# Altium integrated library My_Integrated_Library.IntLib: 29 symbols
Pins are listed as number, name and electrical type; pins without a type are passive.

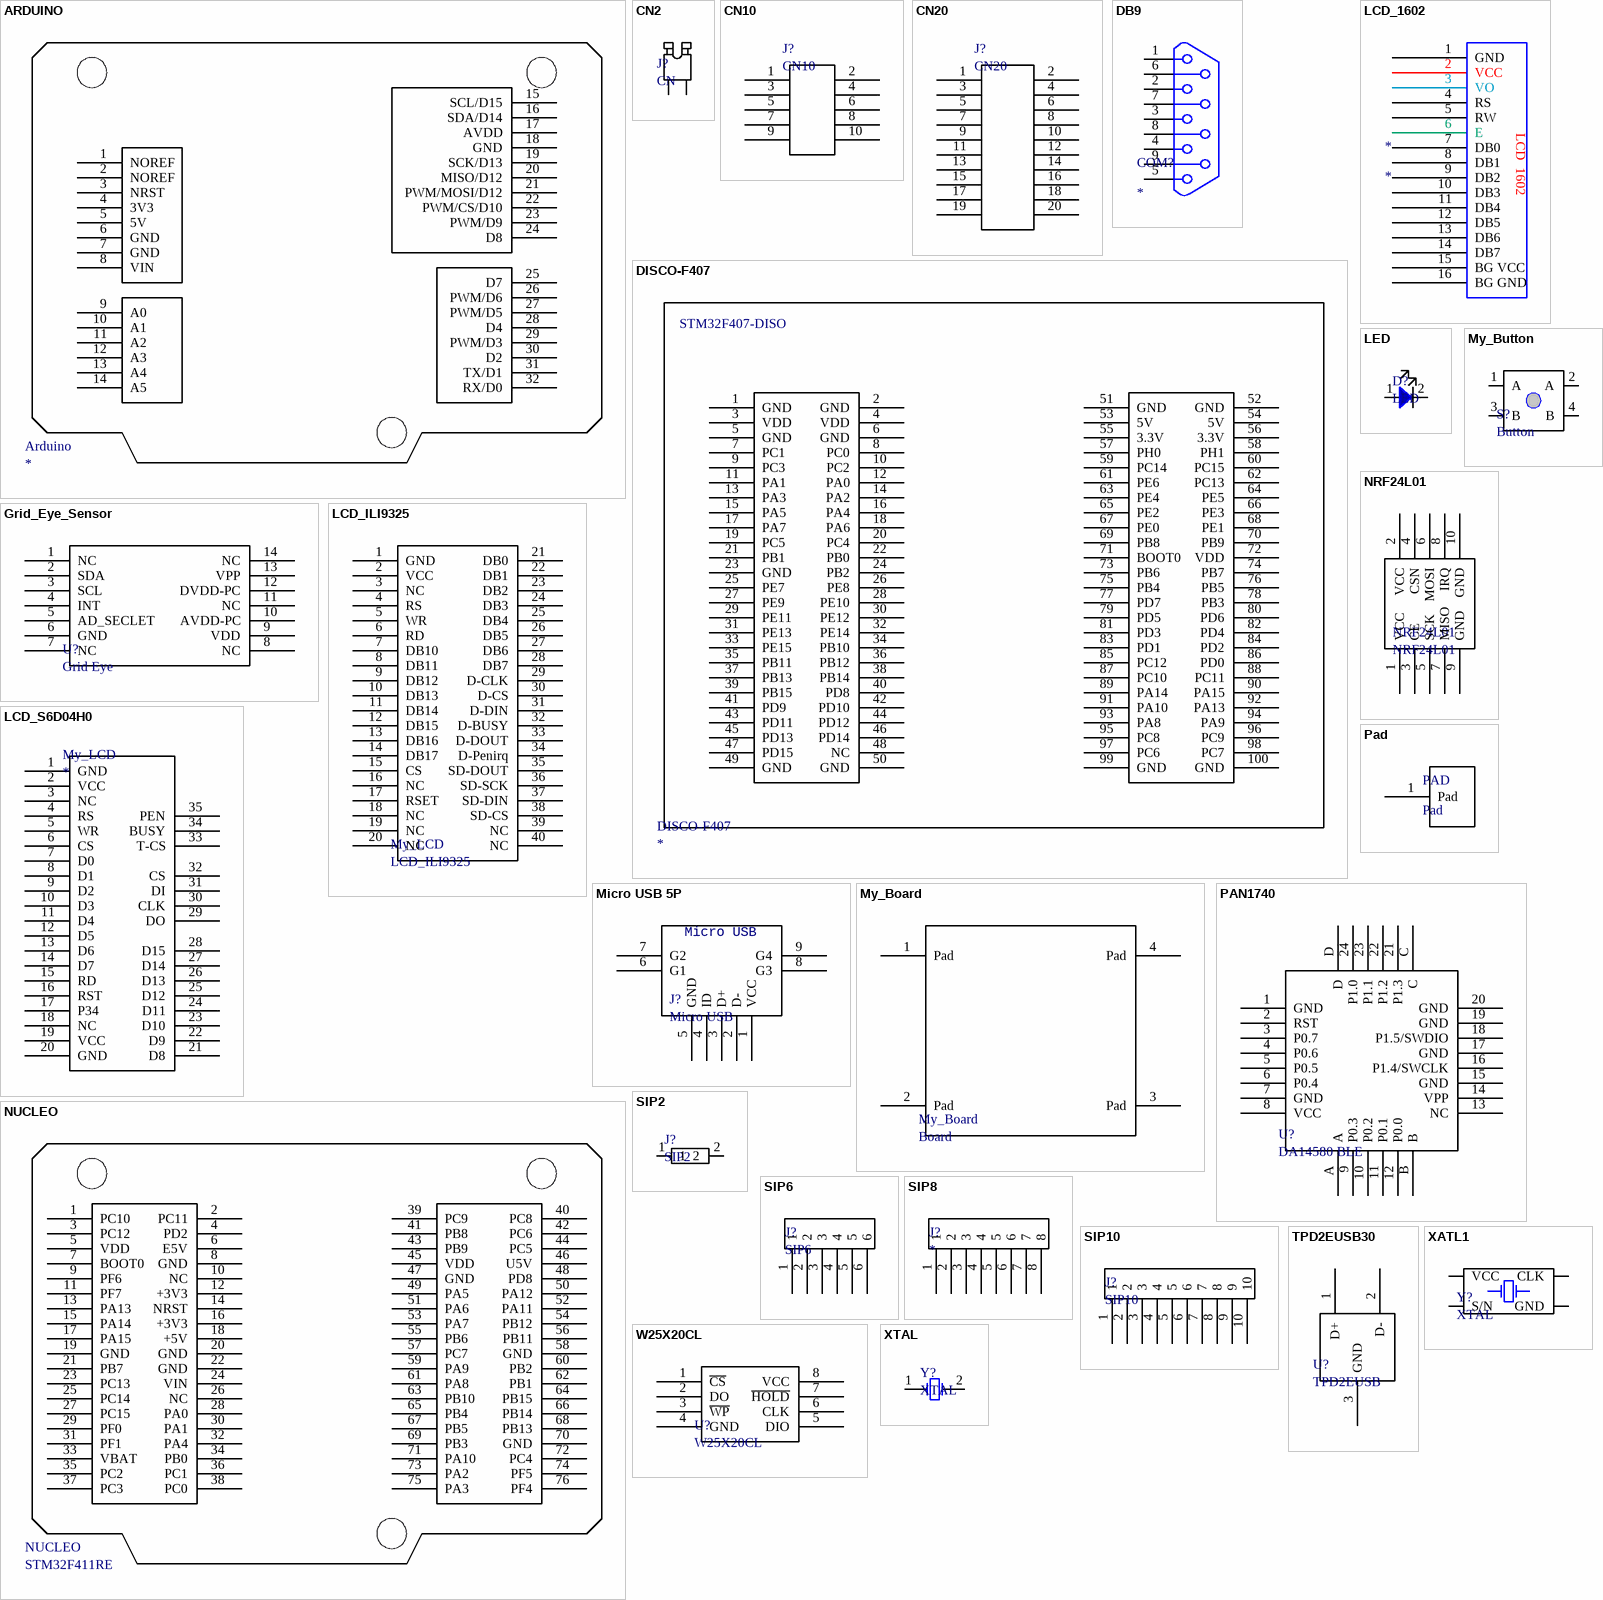
[diagram p0: symbols ARDUINO to XTAL]

## ARDUINO
designator Arduino
My Arduino
footprint ARDUINO
pins: 1 NOREF "My Pad", 2 NOREF "My Pad", 3 NRST "My Pad", 4 3V3 "My Pad", 5 5V "My Pad", 6 GND "My Pad", 7 GND "My Pad", 8 VIN "My Pad", 9 A0 "My Pad", 10 A1 "My Pad", 11 A2 "My Pad", 12 A3 "My Pad", 13 A4 "My Pad", 14 A5 "My Pad", 15 SCL/D15 "My Pad", 16 SDA/D14 "My Pad", 17 AVDD "My Pad", 18 GND "My Pad", 19 SCK/D13 "My Pad", 20 MISO/D12 "My Pad", 21 PWM/MOSI/D12 "My Pad", 22 PWM/CS/D10 "My Pad", 23 PWM/D9 "My Pad", 24 D8 "My Pad", 25 D7 "My Pad", 26 PWM/D6 "My Pad", 27 PWM/D5 "My Pad", 28 D4 "My Pad", 29 PWM/D3 "My Pad", 30 D2 "My Pad", 31 TX/D1 "My Pad", 32 RX/D0 "My Pad"

## CN2
designator J?, comment CN
My CN2
footprint CN2 (Header 2 X 1)
pins: 1 "My Pad", 2 "My Pad"

## CN10
designator J?
My CN10
footprint CN10 (Header 5 X 2)
pins: 1 "My Pad", 2 "My Pad", 3 "My Pad", 4 "My Pad", 5 "My Pad", 6 "My Pad", 7 "My Pad", 8 "My Pad", 9 "My Pad", 10 "My Pad"

## CN20
designator J?
My CN20
footprint CN20
pins: 1 "My Pad", 2 "My Pad", 3 "My Pad", 4 "My Pad", 5 "My Pad", 6 "My Pad", 7 "My Pad", 8 "My Pad", 9 "My Pad", 10 "My Pad", 11 "My Pad", 12 "My Pad", 13 "My Pad", 14 "My Pad", 15 "My Pad", 16 "My Pad", 17 "My Pad", 18 "My Pad", 19 "My Pad", 20 "My Pad"

## DB9
designator COM?
footprint DB9
pins: 1, 2, 3, 4, 5, 6, 7, 8, 9

## DISCO-F407
designator DISCO-F407
My_Disco
footprint DISCOVERY-F4 (ST DISCOVERY BOARD)
pins: 1 GND "My Pad", 2 GND "My Pad", 3 VDD "My Pad", 4 VDD "My Pad", 5 GND "My Pad", 6 GND "My Pad", 7 PC1 "My Pad", 8 PC0 "My Pad", 9 PC3 "My Pad", 10 PC2 "My Pad", 11 PA1 "My Pad", 12 PA0 "My Pad", 13 PA3 "My Pad", 14 PA2 "My Pad", 15 PA5 "My Pad", 16 PA4 "My Pad", 17 PA7 "My Pad", 18 PA6 "My Pad", 19 PC5 "My Pad", 20 PC4 "My Pad", 21 PB1 "My Pad", 22 PB0 "My Pad", 23 GND "My Pad", 24 PB2 "My Pad", 25 PE7 "My Pad", 26 PE8 "My Pad", 27 PE9 "My Pad", 28 PE10 "My Pad", 29 PE11 "My Pad", 30 PE12 "My Pad", 31 PE13 "My Pad", 32 PE14 "My Pad", 33 PE15 "My Pad", 34 PB10 "My Pad", 35 PB11 "My Pad", 36 PB12 "My Pad", 37 PB13 "My Pad", 38 PB14 "My Pad", 39 PB15 "My Pad", 40 PD8 "My Pad", 41 PD9 "My Pad", 42 PD10 "My Pad", 43 PD11 "My Pad", 44 PD12 "My Pad", 45 PD13 "My Pad", 46 PD14 "My Pad", 47 PD15 "My Pad", 48 NC "My Pad", 49 GND "My Pad", 50 GND "My Pad", 51 GND "My Pad", 52 GND "My Pad", 53 5V "My Pad", 54 5V "My Pad", 55 3.3V "My Pad", 56 3.3V "My Pad", 57 PH0 "My Pad", 58 PH1 "My Pad", 59 PC14 "My Pad", 60 PC15 "My Pad", 61 PE6 "My Pad", 62 PC13 "My Pad", 63 PE4 "My Pad", 64 PE5 "My Pad", 65 PE2 "My Pad", 66 PE3 "My Pad", 67 PE0 "My Pad", 68 PE1 "My Pad", 69 PB8 "My Pad", 70 PB9 "My Pad", 71 BOOT0 "My Pad", 72 VDD "My Pad", 73 PB6 "My Pad", 74 PB7 "My Pad", 75 PB4 "My Pad", 76 PB5 "My Pad", 77 PD7 "My Pad", 78 PB3 "My Pad", 79 PD5 "My Pad", 80 PD6 "My Pad", 81 PD3 "My Pad", 82 PD4 "My Pad", 83 PD1 "My Pad", 84 PD2 "My Pad", 85 PC12 "My Pad", 86 PD0 "My Pad", 87 PC10 "My Pad", 88 PC11 "My Pad", 89 PA14 "My Pad", 90 PA15 "My Pad", 91 PA10 "My Pad", 92 PA13 "My Pad", 93 PA8 "My Pad", 94 PA9 "My Pad", 95 PC8 "My Pad", 96 PC9 "My Pad", 97 PC6 "My Pad", 98 PC7 "My Pad", 99 GND "My Pad", 100 GND "My Pad"
text: STM32F407-DISO

## Grid_Eye_Sensor
designator U?, comment Grid Eye
Grid Eye Sensor
footprint Grid_Eye_Sensor (Grid Eye Sensor)
pins: 1 NC "My Pad", 2 SDA "My Pad", 3 SCL "My Pad", 4 INT "My Pad", 5 AD_SECLET "My Pad", 6 GND "My Pad", 7 NC "My Pad", 8 NC "My Pad", 9 VDD "My Pad", 10 AVDD-PC "My Pad", 11 NC "My Pad", 12 DVDD-PC "My Pad", 13 VPP "My Pad", 14 NC "My Pad"

## LCD_1602
designator *
pins: 1 GND, 2 VCC, 3 VO, 4 RS, 5 RW, 6 E, 7 DB0, 8 DB1, 9 DB2, 10 DB3, 11 DB4, 12 DB5, 13 DB6, 14 DB7, 15 BG VCC, 16 BG GND
text: LCD  1602

## LCD_ILI9325
designator My_LCD
LCD ILI9325
footprint ILI9325 (My  ILI9325 LCD module)
pins: 1 GND "My Pad", 2 VCC "My Pad", 3 NC "My Pad", 4 RS "My Pad", 5 WR "My Pad", 6 RD "My Pad", 7 DB10 "My Pad", 8 DB11 "My Pad", 9 DB12 "My Pad", 10 DB13 "My Pad", 11 DB14 "My Pad", 12 DB15 "My Pad", 13 DB16 "My Pad", 14 DB17 "My Pad", 15 CS "My Pad", 16 NC "My Pad", 17 RSET "My Pad", 18 NC "My Pad", 19 NC "My Pad", 20 NC "My Pad", 21 DB0 "My Pad", 22 DB1 "My Pad", 23 DB2 "My Pad", 24 DB3 "My Pad", 25 DB4 "My Pad", 26 DB5 "My Pad", 27 DB6 "My Pad", 28 DB7 "My Pad", 29 D-CLK "My Pad", 30 D-CS "My Pad", 31 D-DIN "My Pad", 32 D-BUSY "My Pad", 33 D-DOUT "My Pad", 34 D-Penirq "My Pad", 35 SD-DOUT "My Pad", 36 SD-SCK "My Pad", 37 SD-DIN "My Pad", 38 SD-CS "My Pad", 39 NC "My Pad", 40 NC "My Pad"

## LCD_S6D04H0
designator My_LCD
LCD SD6404H0 module
footprint S6D04H0 (My S6D04H0 Module)
pins: 1 GND "My Pad", 2 VCC "My Pad", 3 NC "My Pad", 4 RS "My Pad", 5 WR "My Pad", 6 CS "My Pad", 7 D0 "My Pad", 8 D1 "My Pad", 9 D2 "My Pad", 10 D3 "My Pad", 11 D4 "My Pad", 12 D5 "My Pad", 13 D6 "My Pad", 14 D7 "My Pad", 15 RD "My Pad", 16 RST "My Pad", 17 P34 "My Pad", 18 NC "My Pad", 19 VCC "My Pad", 20 GND "My Pad", 21 D8 "My Pad", 22 D9 "My Pad", 23 D10 "My Pad", 24 D11 "My Pad", 25 D12 "My Pad", 26 D13 "My Pad", 27 D14 "My Pad", 28 D15 "My Pad", 29 DO "My Pad", 30 CLK "My Pad", 31 DI "My Pad", 32 CS "My Pad", 33 T-CS "My Pad", 34 BUSY "My Pad", 35 PEN "My Pad"

## LED
designator D?
My LED
footprint LED-F5 (LED F5 草帽灯)
pins: 1 "My Pad", 2 "My Pad"

## Micro USB 5P
designator J?, comment Micro USB
Micro USB 5P
footprint Micro USB (Micro USB 5p)
pins: 1 VCC "My Pad", 2 D- "My Pad", 3 D+ "My Pad", 4 ID "My Pad", 5 GND "My Pad", 6 G1 "My Pad", 7 G2 "My Pad", 8 G3 "My Pad", 9 G4 "My Pad"

## My_Board
designator My_Board, comment Board
My Board
footprint My_Board_9_15 (9*15cm board)
footprint My_Board_5_7 (baord 5x7cm)
footprint MY_BOARD_6_6 (My Boaed 6 x 6 cm)
pins: 1 Pad "My Pad", 2 Pad "My Pad", 3 Pad "My Pad", 4 Pad "My Pad"

## My_Button
designator S?, comment Button
My Button
footprint My_Button (My Botton 4 pins)
pins: 1 A "My Pad", 2 A "My Pad", 3 B "My Pad", 4 B "My Pad"

## NRF24L01
designator NRF24L01
My NRF14L01 Module
footprint NRF24L01 (NRF24L01 PCB MODULE)
pins: 1 VCC "My Pad", 2 VCC "My Pad", 3 CE "My Pad", 4 CSN "My Pad", 5 SCK "My Pad", 6 MOSI "My Pad", 7 MISO "My Pad", 8 IRQ "My Pad", 9 GND "My Pad", 10 GND "My Pad"

## NUCLEO
designator NUCLEO, comment STM32F411RE
STM32F411RE Nucleo Board
footprint NUCLEO Board (My_Nucleo)
pins: 1 PC10 "My Pad", 2 PC11 "My Pad", 3 PC12 "My Pad", 4 PD2 "My Pad", 5 VDD "My Pad", 6 E5V "My Pad", 7 BOOT0 "My Pad", 8 GND "My Pad", 9 PF6 "My Pad", 10 NC "My Pad", 11 PF7 "My Pad", 12 +3V3 "My Pad", 13 PA13 "My Pad", 14 NRST "My Pad", 15 PA14 "My Pad", 16 +3V3 "My Pad", 17 PA15 "My Pad", 18 +5V "My Pad", 19 GND "My Pad", 20 GND "My Pad", 21 PB7 "My Pad", 22 GND "My Pad", 23 PC13 "My Pad", 24 VIN "My Pad", 25 PC14 "My Pad", 26 NC "My Pad", 27 PC15 "My Pad", 28 PA0 "My Pad", 29 PF0 "My Pad", 30 PA1 "My Pad", 31 PF1 "My Pad", 32 PA4 "My Pad", 33 VBAT "My Pad", 34 PB0 "My Pad", 35 PC2 "My Pad", 36 PC1 "My Pad", 37 PC3 "My Pad", 38 PC0 "My Pad", 39 PC9 "My Pad", 40 PC8 "My Pad", 41 PB8 "My Pad", 42 PC6 "My Pad", 43 PB9 "My Pad", 44 PC5 "My Pad", 45 VDD "My Pad", 46 U5V "My Pad", 47 GND "My Pad", 48 PD8 "My Pad", 49 PA5 "My Pad", 50 PA12 "My Pad", 51 PA6 "My Pad", 52 PA11 "My Pad", 53 PA7 "My Pad", 54 PB12 "My Pad", 55 PB6 "My Pad", 56 PB11 "My Pad", 57 PC7 "My Pad", 58 GND "My Pad", 59 PA9 "My Pad", 60 PB2 "My Pad", 61 PA8 "My Pad", 62 PB1 "My Pad", 63 PB10 "My Pad", 64 PB15 "My Pad", 65 PB4 "My Pad", 66 PB14 "My Pad", 67 PB5 "My Pad", 68 PB13 "My Pad", 69 PB3 "My Pad", 70 GND "My Pad", 71 PA10 "My Pad", 72 PC4 "My Pad", 73 PA2 "My Pad", 74 PF5 "My Pad", 75 PA3 "My Pad", 76 PF4 "My Pad"

## Pad
designator PAD
My Pad
footprint Pad (My Pad)
pins: 1 Pad "My Pad"

## PAN1740
designator U?, comment DA14580 BLE
DA14580 BLE MODULE
footprint PAN1740 (DA14580 BLE MODULE)
pins: 1 GND "My Pad", 2 RST "My Pad", 3 P0.7 "My Pad", 4 P0.6 "My Pad", 5 P0.5 "My Pad", 6 P0.4 "My Pad", 7 GND "My Pad", 8 VCC "My Pad", 9 P0.3 "My Pad", 10 P0.2 "My Pad", 11 P0.1 "My Pad", 12 P0.0 "My Pad", 13 NC "My Pad", 14 VPP "My Pad", 15 GND "My Pad", 16 P1.4/SWCLK "My Pad", 17 GND "My Pad", 18 P1.5/SWDIO "My Pad", 19 GND "My Pad", 20 GND "My Pad", 21 P1.3 "My Pad", 22 P1.2 "My Pad", 23 P1.1 "My Pad", 24 P1.0 "My Pad", A "My Pad", B "My Pad", C "My Pad", D "My Pad"

## SIP2
designator J?
footprint SIP2
pins: 1 "My Pad", 2 "My Pad"

## SIP6
designator J?
footprint SIP6
pins: 1 "My Pad", 2 "My Pad", 3 "My Pad", 4 "My Pad", 5 "My Pad", 6 "My Pad"

## SIP8
designator J?
SIP8
footprint SIP8
pins: 1 "My Pad", 2 "My Pad", 3 "My Pad", 4 "My Pad", 5 "My Pad", 6 "My Pad", 7 "My Pad", 8 "My Pad"

## SIP10
designator J?
footprint SIP10
pins: 1 "My Pad", 2 "My Pad", 3 "My Pad", 4 "My Pad", 5 "My Pad", 6 "My Pad", 7 "My Pad", 8 "My Pad", 9 "My Pad", 10 "My Pad"

## TPD2EUSB30
designator U?, comment TPD2EUSB
TPD2EUSB30
footprint TPDEUSB30
pins: 1 D+ "My Pad", 2 D- "My Pad", 3 GND "My Pad"

## W25X20CL
designator U?
footprint SOP8
pins: 1 ~{CS} "My Pad", 2 DO "My Pad", 3 ~{WP} "My Pad", 4 GND "My Pad", 5 DIO "My Pad", 6 CLK "My Pad", 7 ~{HOLD} "My Pad", 8 VCC "My Pad"

## XATL1
designator Y?, comment XTAL
footprint xtal1 (XTAL1)
pins: 1 S/N, 2 GND, 3 CLK, 4 VCC

## XTAL
designator Y?
footprint XTAL
pins: 1, 2


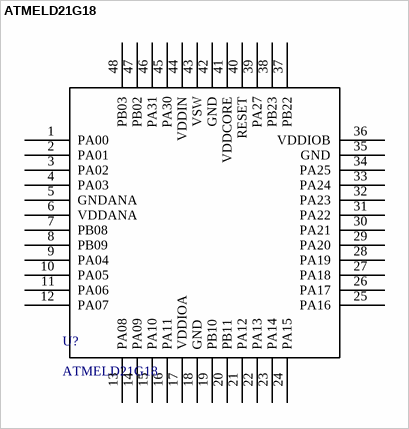
[diagram p1: symbol ATMELD21G18]

## ATMELD21G18
designator U?
ATMELD21G18A
footprint TQPF48 (F-QFP7x7-G48/N)
pins: 1 PA00 "My Pad", 2 PA01 "My Pad", 3 PA02 "My Pad", 4 PA03 "My Pad", 5 GNDANA "My Pad", 6 VDDANA "My Pad", 7 PB08 "My Pad", 8 PB09 "My Pad", 9 PA04 "My Pad", 10 PA05 "My Pad", 11 PA06 "My Pad", 12 PA07 "My Pad", 13 PA08 "My Pad", 14 PA09 "My Pad", 15 PA10 "My Pad", 16 PA11 "My Pad", 17 VDDIOA "My Pad", 18 GND "My Pad", 19 PB10 "My Pad", 20 PB11 "My Pad", 21 PA12 "My Pad", 22 PA13 "My Pad", 23 PA14 "My Pad", 24 PA15 "My Pad", 25 PA16 "My Pad", 26 PA17 "My Pad", 27 PA18 "My Pad", 28 PA19 "My Pad", 29 PA20 "My Pad", 30 PA21 "My Pad", 31 PA22 "My Pad", 32 PA23 "My Pad", 33 PA24 "My Pad", 34 PA25 "My Pad", 35 GND "My Pad", 36 VDDIOB "My Pad", 37 PB22 "My Pad", 38 PB23 "My Pad", 39 PA27 "My Pad", 40 RESET "My Pad", 41 VDDCORE "My Pad", 42 GND "My Pad", 43 VSW "My Pad", 44 VDDIN "My Pad", 45 PA30 "My Pad", 46 PA31 "My Pad", 47 PB02 "My Pad", 48 PB03 "My Pad"


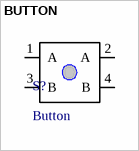
[diagram p2: symbol BUTTON]

## BUTTON
designator S?, comment Button
footprint Button (Button with 4 pins)
pins: 1 A "My Pad", 2 A "My Pad", 3 B "My Pad", 4 B "My Pad"


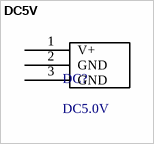
[diagram p3: symbol DC5V]

## DC5V
designator DC?, comment DC5.0V
footprint DC5V (DC 5.0V)
pins: 1 V+, 2 GND, 3 GND